# EAGLE library part FAN73611 (library my_devices)
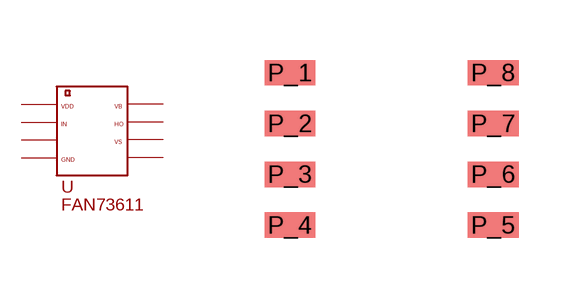
[diagram p16: symbol with the pads of SOIC-8; footprint SOIC-8]

Designator prefix U

## FAN73611  [SOIC-8]
P_1  VDD  pwr
P_2  IN  in
P_3  NC1  nc
P_4  GND  pwr
P_5  NC2  nc
P_6  VS  in
P_7  HO  out
P_8  VB  pwr

## Footprint SOIC-8 (pad centres in mm)
smd 1.27 x 0.635: P_1 -2.54,1.27; P_2 -2.54,0; P_3 -2.54,-1.27; P_4 -2.54,-2.54; P_5 2.54,-2.54; P_6 2.54,-1.27; P_7 2.54,0; P_8 2.54,1.27